# Altium footprint library STY130NF20D.PCBLIB: 2 footprints
Each footprint in its own frame and in the unit in brackets; x right, y up, seen from the top. Pads: shape width x height; smd on the part's side, far side on the other; paste and mask are expansions set on the pad; w line width, h text height; cw(c..) or ccw(c..) is an arc to the next point about the centre after c.
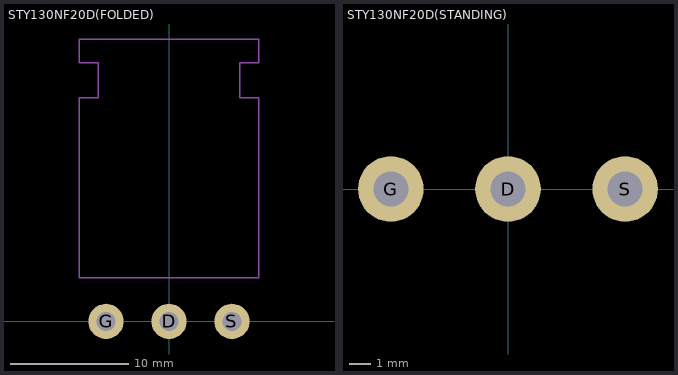
[diagram p0: the footprints below, top view; thin cyan lines are the x and y axes]

## STY130NF20D(FOLDED) [mm]
pads (3):
  round 3 / inner round 1.524 / far side round 3 hole 1.6: D(0,0) G(-5.35,0) S(5.35,0)
Mechanical 22:
  lines w0.127: -7.65,3.7 7.65,3.7 7.65,19 6,19 6,22 7.65,22 7.65,24 -7.65,24 -7.65,22 -6,22 -6,19 -7.65,19 -7.65,3.7

## STY130NF20D(STANDING) [mm]
pads (3):
  round 3 / inner round 1.524 / far side round 3 hole 1.6: D(0,0) G(-5.35,0) S(5.35,0)